# EAGLE library part 85513-6 (library fcounter)
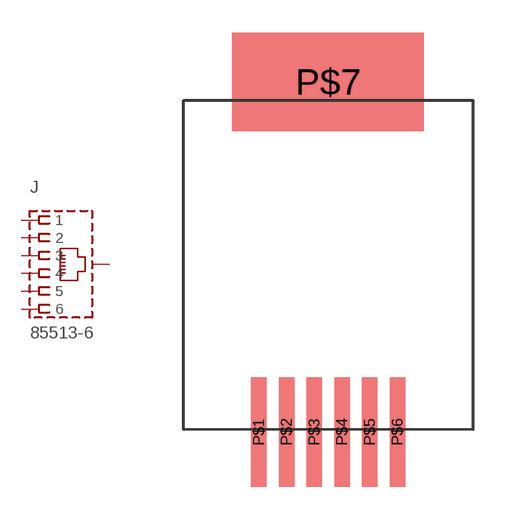
[diagram p3: symbol with the pads of 85513-6; footprint 85513-6]

Designator prefix J

## 85513-6  [85513-6]
P$1  6  pas
P$2  5  pas
P$3  4  pas
P$4  3  pas
P$5  2  pas
P$6  1  pas
P$7  SHLD  pas

## Footprint 85513-6 (pad centres in mm)
smd 0.711 x 5.004: P$1 -3.175,-7.938; P$2 -1.905,-7.938; P$3 -0.635,-7.938; P$4 0.635,-7.938; P$5 1.905,-7.938; P$6 3.175,-7.938
smd 8.788 x 4.496: P$7 -0.006,8.109